# Altium integrated library Silicon Labs Clocks and Oscillators.IntLib: 678 symbols (part 21 of 45)
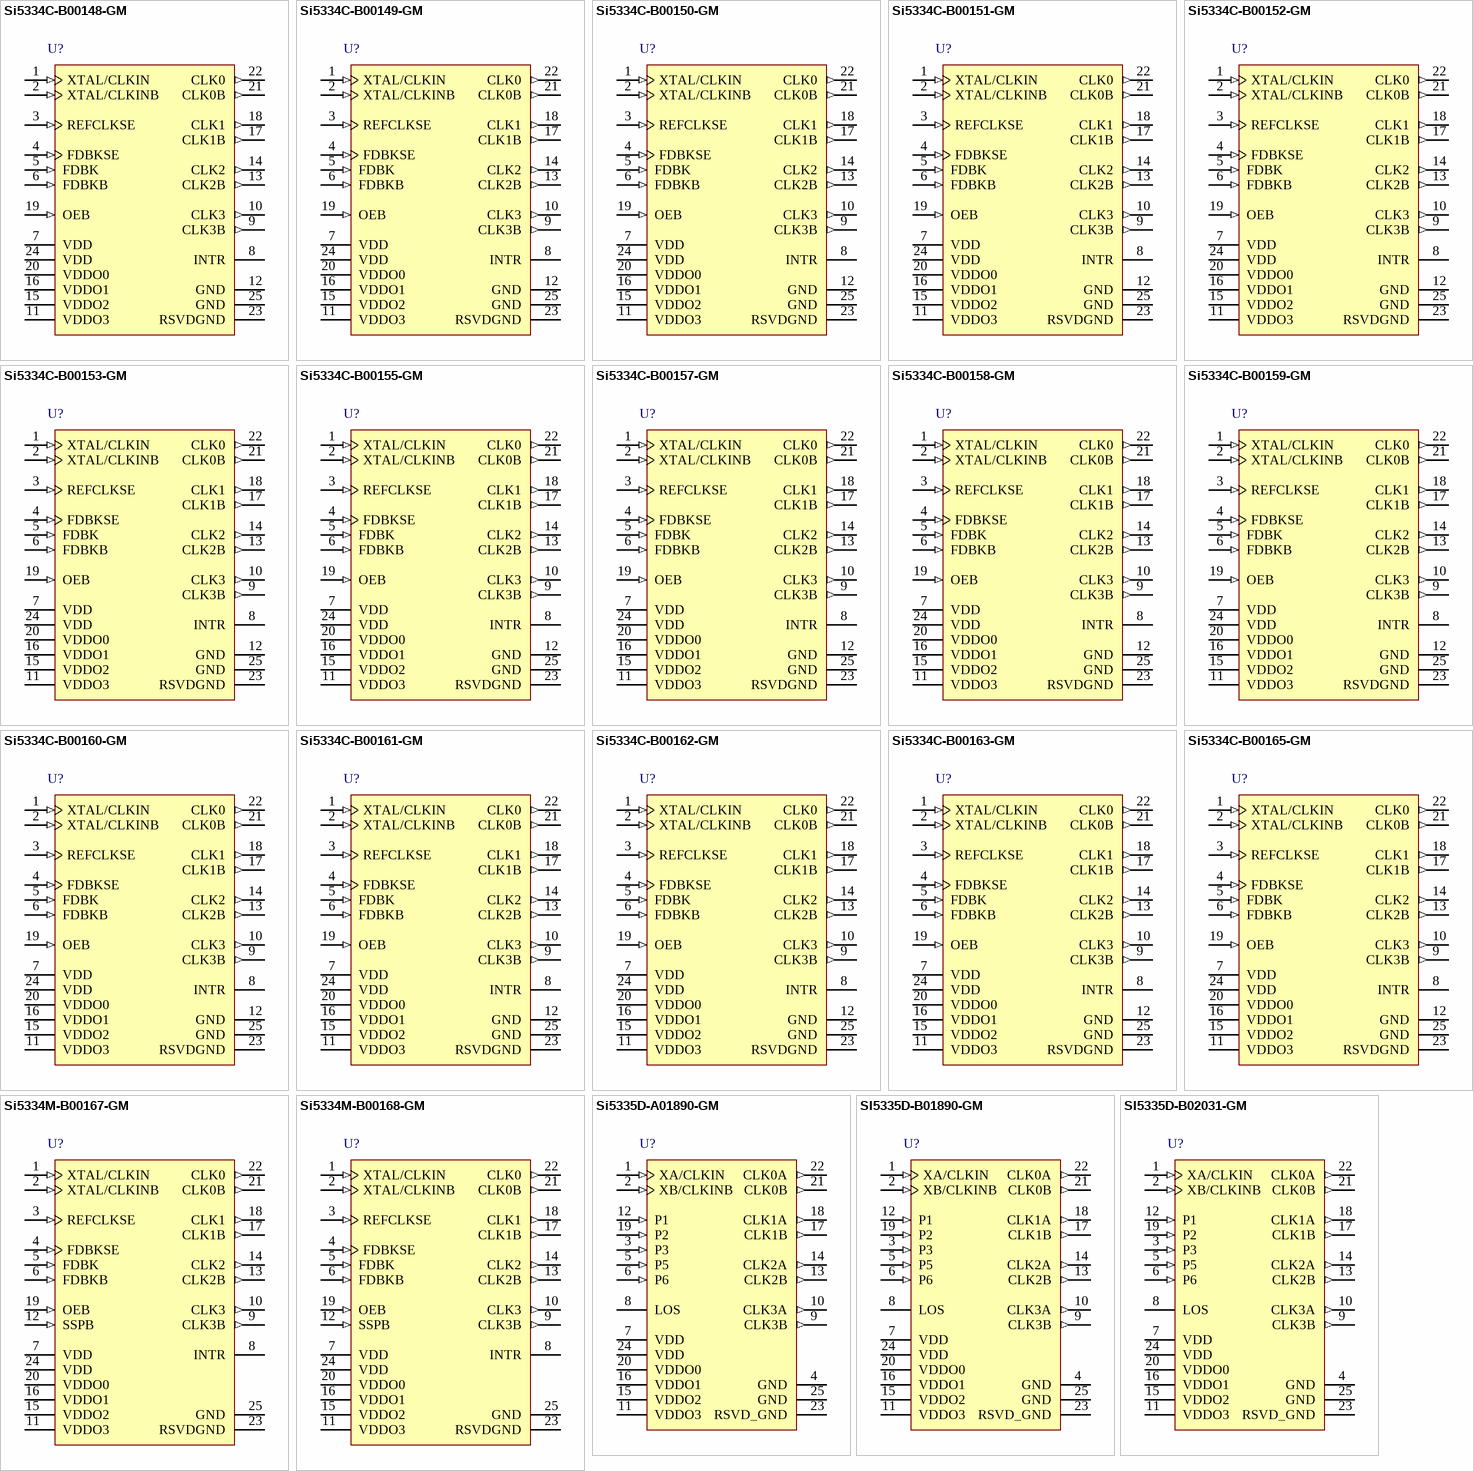
[diagram p64: symbols Si5334C-B00148-GM to SI5335D-B02031-GM]

## Si5335D-A01890-GM
designator U?
Web-Customizable, Any-Frequency, Any-Output Quad Clock Generator / Buffer, 1.8 / 2.5 / 3.3 V, 1 to 200 MHz Output, -40 to 85 degC, 24-pin QFN; Manufacturer: Silicon Labs; PartNumber: Si5335D-A01890-GM; Output Format: LVCMOS; LVDS; LVPECL; HCSL; SSTL; HSTL; CML; Output Frequency (MHz): 1 to 200; Reference Inputs: 1; VDD: 1.8 V; 2.5 V; 3.3 V; Sub-Family: Clock Generators part2; DatasheetVersion: Rev. 1.2; PackageReference: QFN-24; PackageDescription: 24-Pin Quad-Flat No-Leads Package, Body 4 x 4 mm, Pitch 0.5 mm; Supplier 1: Mouser; Supplier Part Number 1: 634-SI5335DA01890-GM; Mounting Technology: Surface Mount; Code_JEDEC: MO-220; Code_IPC: J-STD-020; ComponentLink1Description: Manufacturer URL; ComponentLink1URL: http://www.silabs.com/; ComponentLink2Description: Datasheet; ComponentLink2URL: http://www.silabs.com/Support%20Documents/TechnicalDocs/Si5335.pdf; ComponentLink3Description: Package Specification; ComponentLink3URL: http://www.silabs.com/Support%20Documents/TechnicalDocs/Si5330.pdf
footprint SLAB-QFN-24-2500x2500TP_N (QFN, 24-Leads, Body 4x4mm, Pitch 0.5mm, Thermal Pad 2.5x2.5mm, IPC Medium Density)
footprint SLAB-QFN-24-2500x2500TP_L (QFN, 24-Leads, Body 4x4mm, Pitch 0.5mm, Thermal Pad 2.5x2.5mm, IPC High Density)
footprint SLAB-QFN-24-2500x2500TP_M (QFN, 24-Leads, Body 4x4mm, Pitch 0.5mm, Thermal Pad 2.5x2.5mm, IPC Low Density)
pins: 1 XA/CLKIN (in) "These pins are used as the main differential or single-ended clock input or as the XTAL input.", 2 XB/CLKINB (in) "These pins are used as the main differential or single-ended clock input or as the XTAL input.", 3 P3 (in) "Multi-Function Input. 3.3 V tolerant.", 4 GND (power) "Ground.", 5 P5 (in) "Multi-Function Input.", 6 P6 (in) "Multi-Function Input.", 7 VDD (power) "Core Supply Voltage", 8 LOS (oc) "Loss of Signal.", 9 CLK3B (out) "Output Clock B for Channel 3", 10 CLK3A (out) "Output Clock A for Channel 3", 11 VDDO3 (power) "Output Clock Supply Voltage", 12 P1 (in) "Multi-Function Input. 3.3 V tolerant.", 13 CLK2B (out) "Output Clock B for Channel 2", 14 CLK2A (out) "Output Clock A for Channel 2", 15 VDDO2 (power) "Output Clock Supply Voltage.", 16 VDDO1 (power) "Output Clock Supply Voltage.", 17 CLK1B (out) "Output Clock B for Channel 1", 18 CLK1A (out) "Output Clock A for Channel 1", 19 P2 (in) "Multi-Function Input. 3.3 V tolerant.", 20 VDDO0 (power) "Output Clock Supply Voltage.", 21 CLK0B (out) "Output Clock B for Channel 0", 22 CLK0A (out) "Output Clock A for Channel 0", 23 RSVD_GND (power) "Ground.", 24 VDD (power) "Core Supply Voltage.", 25 GND (power) "Ground Pad."

## SI5335D-B01890-GM
designator U?
Web-Customizable, Any-Frequency, Any-Output Quad Clock Generator / Buffer, 1.8 / 2.5 / 3.3 V, 1 to 200 MHz Output, -40 to 85 degC, 24-pin QFN; Manufacturer: Silicon Labs; PartNumber: SI5335D-B01890-GM; Output Format: LVCMOS; LVDS; LVPECL; HCSL; SSTL; HSTL; CML; Output Frequency (MHz): 1 to 200; Reference Inputs: 1; VDD: 1.8 V; 2.5 V; 3.3 V; Sub-Family: Clock Generators part2; DatasheetVersion: Rev. 1.2; PackageReference: QFN-24; PackageDescription: 24-Pin Quad-Flat No-Leads Package, Body 4 x 4 mm, Pitch 0.5 mm; Supplier 1: Mouser; Supplier Part Number 1: 634-SI5335DB01890-GM; Mounting Technology: Surface Mount; Code_JEDEC: MO-220; Code_IPC: J-STD-020; ComponentLink1Description: Manufacturer URL; ComponentLink1URL: http://www.silabs.com/; ComponentLink2Description: Datasheet; ComponentLink2URL: http://www.silabs.com/Support%20Documents/TechnicalDocs/Si5335.pdf; ComponentLink3Description: Package Specification; ComponentLink3URL: http://www.silabs.com/Support%20Documents/TechnicalDocs/Si5330.pdf
footprint SLAB-QFN-24-2500x2500TP_N (QFN, 24-Leads, Body 4x4mm, Pitch 0.5mm, Thermal Pad 2.5x2.5mm, IPC Medium Density)
footprint SLAB-QFN-24-2500x2500TP_L (QFN, 24-Leads, Body 4x4mm, Pitch 0.5mm, Thermal Pad 2.5x2.5mm, IPC High Density)
footprint SLAB-QFN-24-2500x2500TP_M (QFN, 24-Leads, Body 4x4mm, Pitch 0.5mm, Thermal Pad 2.5x2.5mm, IPC Low Density)
pins: 1 XA/CLKIN (in) "These pins are used as the main differential or single-ended clock input or as the XTAL input.", 2 XB/CLKINB (in) "These pins are used as the main differential or single-ended clock input or as the XTAL input.", 3 P3 (in) "Multi-Function Input. 3.3 V tolerant.", 4 GND (power) "Ground.", 5 P5 (in) "Multi-Function Input.", 6 P6 (in) "Multi-Function Input.", 7 VDD (power) "Core Supply Voltage", 8 LOS (oc) "Loss of Signal.", 9 CLK3B (out) "Output Clock B for Channel 3", 10 CLK3A (out) "Output Clock A for Channel 3", 11 VDDO3 (power) "Output Clock Supply Voltage", 12 P1 (in) "Multi-Function Input. 3.3 V tolerant.", 13 CLK2B (out) "Output Clock B for Channel 2", 14 CLK2A (out) "Output Clock A for Channel 2", 15 VDDO2 (power) "Output Clock Supply Voltage.", 16 VDDO1 (power) "Output Clock Supply Voltage.", 17 CLK1B (out) "Output Clock B for Channel 1", 18 CLK1A (out) "Output Clock A for Channel 1", 19 P2 (in) "Multi-Function Input. 3.3 V tolerant.", 20 VDDO0 (power) "Output Clock Supply Voltage.", 21 CLK0B (out) "Output Clock B for Channel 0", 22 CLK0A (out) "Output Clock A for Channel 0", 23 RSVD_GND (power) "Ground.", 24 VDD (power) "Core Supply Voltage.", 25 GND (power) "Ground Pad."

## SI5335D-B02031-GM
designator U?
Web-Customizable, Any-Frequency, Any-Output Quad Clock Generator / Buffer, 1.8 / 2.5 / 3.3 V, 1 to 200 MHz Output, -40 to 85 degC, 24-pin QFN; Manufacturer: Silicon Labs; PartNumber: SI5335D-B02031-GM; Output Format: LVCMOS; LVDS; LVPECL; HCSL; SSTL; HSTL; CML; Output Frequency (MHz): 1 to 200; Reference Inputs: 1; VDD: 1.8 V; 2.5 V; 3.3 V; Sub-Family: Clock Generators part2; DatasheetVersion: Rev. 1.2; PackageReference: QFN-24; PackageDescription: 24-Pin Quad-Flat No-Leads Package, Body 4 x 4 mm, Pitch 0.5 mm; Supplier 1: Mouser; Supplier Part Number 1: 634-SI5335DB02031-GM; Mounting Technology: Surface Mount; Code_JEDEC: MO-220; Code_IPC: J-STD-020; ComponentLink1Description: Manufacturer URL; ComponentLink1URL: http://www.silabs.com/; ComponentLink2Description: Datasheet; ComponentLink2URL: http://www.silabs.com/Support%20Documents/TechnicalDocs/Si5335.pdf; ComponentLink3Description: Package Specification; ComponentLink3URL: http://www.silabs.com/Support%20Documents/TechnicalDocs/Si5330.pdf
footprint SLAB-QFN-24-2500x2500TP_N (QFN, 24-Leads, Body 4x4mm, Pitch 0.5mm, Thermal Pad 2.5x2.5mm, IPC Medium Density)
footprint SLAB-QFN-24-2500x2500TP_L (QFN, 24-Leads, Body 4x4mm, Pitch 0.5mm, Thermal Pad 2.5x2.5mm, IPC High Density)
footprint SLAB-QFN-24-2500x2500TP_M (QFN, 24-Leads, Body 4x4mm, Pitch 0.5mm, Thermal Pad 2.5x2.5mm, IPC Low Density)
pins: 1 XA/CLKIN (in) "These pins are used as the main differential or single-ended clock input or as the XTAL input.", 2 XB/CLKINB (in) "These pins are used as the main differential or single-ended clock input or as the XTAL input.", 3 P3 (in) "Multi-Function Input. 3.3 V tolerant.", 4 GND (power) "Ground.", 5 P5 (in) "Multi-Function Input.", 6 P6 (in) "Multi-Function Input.", 7 VDD (power) "Core Supply Voltage", 8 LOS (oc) "Loss of Signal.", 9 CLK3B (out) "Output Clock B for Channel 3", 10 CLK3A (out) "Output Clock A for Channel 3", 11 VDDO3 (power) "Output Clock Supply Voltage", 12 P1 (in) "Multi-Function Input. 3.3 V tolerant.", 13 CLK2B (out) "Output Clock B for Channel 2", 14 CLK2A (out) "Output Clock A for Channel 2", 15 VDDO2 (power) "Output Clock Supply Voltage.", 16 VDDO1 (power) "Output Clock Supply Voltage.", 17 CLK1B (out) "Output Clock B for Channel 1", 18 CLK1A (out) "Output Clock A for Channel 1", 19 P2 (in) "Multi-Function Input. 3.3 V tolerant.", 20 VDDO0 (power) "Output Clock Supply Voltage.", 21 CLK0B (out) "Output Clock B for Channel 0", 22 CLK0A (out) "Output Clock A for Channel 0", 23 RSVD_GND (power) "Ground.", 24 VDD (power) "Core Supply Voltage.", 25 GND (power) "Ground Pad."

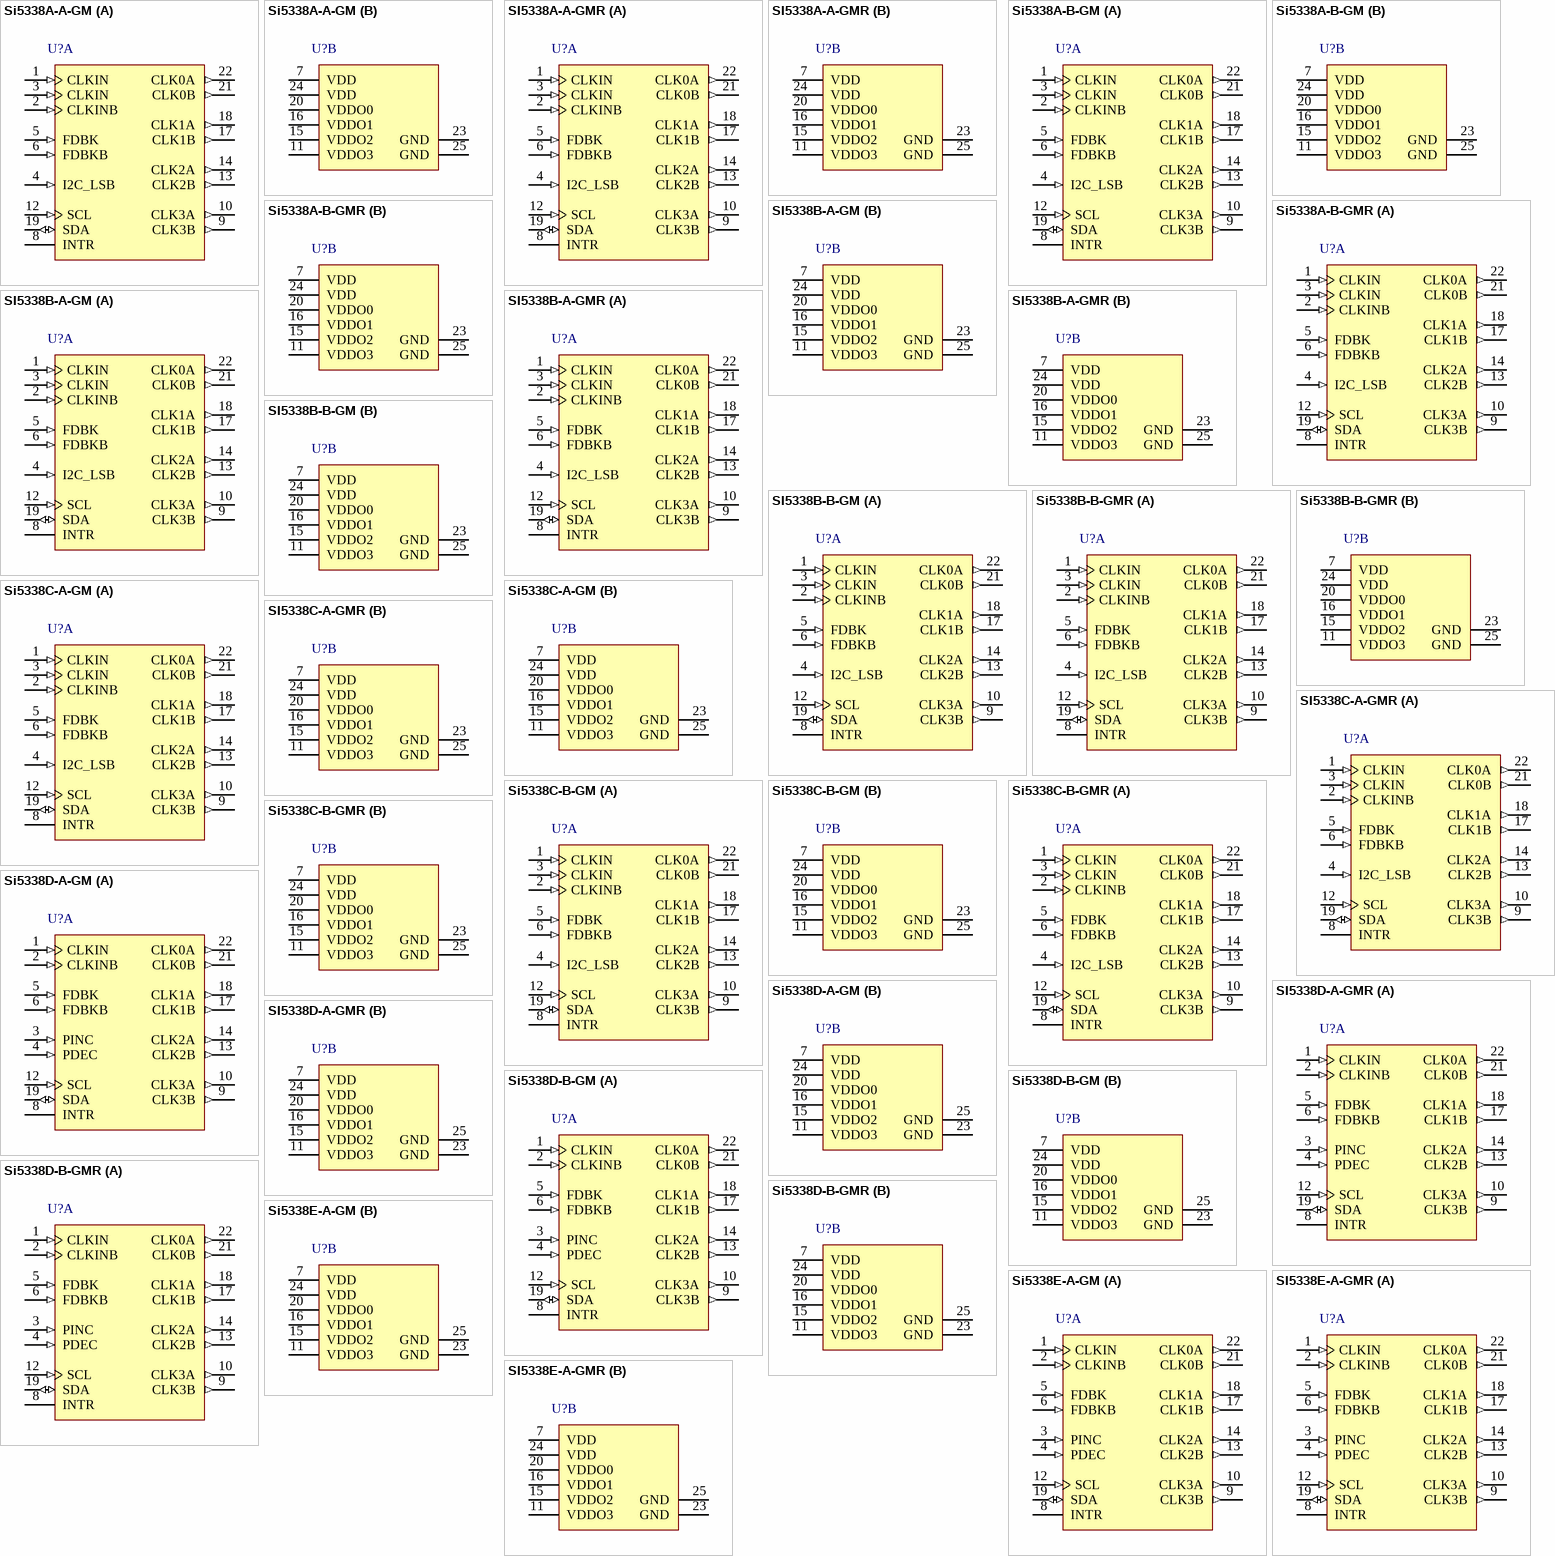
[diagram p22: symbols Si5338A-A-GM to SI5338E-A-GMR]

## Si5338A-A-GM
designator U?
I2C-Programmable Any-Frequency, Any-Output Quad Clock Generator, 1.8 / 2.5 / 3.3 V, 0.16 to 710 MHz Output, -40 to 85 degC, 24-pin QFN; Manufacturer: Silicon Labs; PartNumber: Si5338A-A-GM; Output Format: LVPECL; LVDS; LVCMOS; HCSL; SSTL; HSTL; Reference Inputs: 1; VDD: 1.8 V; 2.5 V; 3.3 V; Sub-Family: Clock Generators part2; DatasheetVersion: Rev. 1.3; PackageReference: QFN-24; PackageDescription: 24-Pin Quad-Flat No-Leads Package, Body 4 x 4 mm, Pitch 0.5 mm; Supplier 1: Digi-Key; Supplier Part Number 1: 336-1553-5-ND; Supplier 2: Mouser; Supplier Part Number 2: 634-SI5338A-A-GM; Output Frequency (MHz): 0.16 to 710; Mounting Technology: Surface Mount; Code_JEDEC: MO-220; Code_IPC: J-STD-020; ComponentLink1Description: Manufacturer URL; ComponentLink1URL: http://www.silabs.com/; ComponentLink2Description: Datasheet; ComponentLink2URL: http://www.silabs.com/Support%20Documents/TechnicalDocs/Si5338.pdf; ComponentLink3Description: Package Specification; ComponentLink3URL: http://www.silabs.com/Support%20Documents/TechnicalDocs/Si5330.pdf
footprint SLAB-QFN-24-2500x2500TP_N (QFN, 24-Leads, Body 4x4mm, Pitch 0.5mm, Thermal Pad 2.5x2.5mm, IPC Medium Density)
footprint SLAB-QFN-24-2500x2500TP_L (QFN, 24-Leads, Body 4x4mm, Pitch 0.5mm, Thermal Pad 2.5x2.5mm, IPC High Density)
footprint SLAB-QFN-24-2500x2500TP_M (QFN, 24-Leads, Body 4x4mm, Pitch 0.5mm, Thermal Pad 2.5x2.5mm, IPC Low Density)
part A pins: 1 CLKIN (in) "These pins are used as the main differential clock input or as the XTAL input.", 2 CLKINB (in) "These pins are used as the main differential clock input or as the XTAL input.", 3 CLKIN (in) "Provides a high-impedance clock input for single ended clock signals.", 4 I2C_LSB (in) "This is the LSB of the Si5338 I2C address.", 5 FDBK (in) "These pins can be used as a differential feedback input in zero delay mode or as a secondary clock input.", 6 FDBKB (in) "These pins can be used as a differential feedback input in zero delay mode or as a secondary clock input.", 8 INTR (oc) "Interrupt.", 9 CLK3B (out) "Output Clock B for Channel 3", 10 CLK3A (out) "Output Clock A for Channel 3", 12 SCL (in) "I2C Serial Clock Input.", 13 CLK2B (out) "Output Clock B for Channel 2", 14 CLK2A (out) "Output Clock A for Channel 2", 17 CLK1B (out) "Output Clock B for Channel 1", 18 CLK1A (out) "Output Clock A for Channel 1", 19 SDA (io) "I2C Serial Data.", 21 CLK0B (out) "Output Clock B for Channel 0", 22 CLK0A (out) "Output Clock A for Channel 0"
part B pins: 7 VDD (power) "Core Supply Voltage", 11 VDDO3 (power) "Output Clock Supply Voltage", 15 VDDO2 (power) "Output Clock Supply Voltage.", 16 VDDO1 (power) "Output Clock Supply Voltage.", 20 VDDO0 (power) "Output Clock Supply Voltage.", 23 GND (power) "Ground.", 24 VDD (power) "Core Supply Voltage.", 25 GND (power) "Ground Pad."

## SI5338A-A-GMR
designator U?
I2C-Programmable Any-Frequency, Any-Output Quad Clock Generator, 1.8 / 2.5 / 3.3 V, 0.16 to 710 MHz Output, -40 to 85 degC, 24-pin QFN, Tape and Reel; Manufacturer: Silicon Labs; PartNumber: SI5338A-A-GMR; Output Format: LVPECL; LVDS; LVCMOS; HCSL; SSTL; HSTL; Phase Jitter (RMS): 0.7 ps; Reference Inputs: 1; VDD: 1.8 V; 2.5 V; 3.3 V; Sub-Family: Clock Generators part2; DatasheetVersion: Rev. 1.3; PackageReference: QFN-24; PackageDescription: 24-Pin Quad-Flat No-Leads Package, Body 4 x 4 mm, Pitch 0.5 mm; Supplier 1: Digi-Key; Supplier Part Number 1: SI5338A-A-GMR-ND; Supplier 2: Mouser; Supplier Part Number 2: 634-SI5338A-A-GMR; Output Frequency (MHz): 0.16 to 710; Packing: Tape and Reel; Mounting Technology: Surface Mount; Code_JEDEC: MO-220; Code_IPC: J-STD-020; ComponentLink1Description: Manufacturer URL; ComponentLink1URL: http://www.silabs.com/; ComponentLink2Description: Datasheet; ComponentLink2URL: http://www.silabs.com/Support%20Documents/TechnicalDocs/Si5338.pdf; ComponentLink3Description: Package Specification; ComponentLink3URL: http://www.silabs.com/Support%20Documents/TechnicalDocs/Si5330.pdf
footprint SLAB-QFN-24-2500x2500TP_N (QFN, 24-Leads, Body 4x4mm, Pitch 0.5mm, Thermal Pad 2.5x2.5mm, IPC Medium Density)
footprint SLAB-QFN-24-2500x2500TP_L (QFN, 24-Leads, Body 4x4mm, Pitch 0.5mm, Thermal Pad 2.5x2.5mm, IPC High Density)
footprint SLAB-QFN-24-2500x2500TP_M (QFN, 24-Leads, Body 4x4mm, Pitch 0.5mm, Thermal Pad 2.5x2.5mm, IPC Low Density)
part A pins: 1 CLKIN (in) "These pins are used as the main differential clock input or as the XTAL input.", 2 CLKINB (in) "These pins are used as the main differential clock input or as the XTAL input.", 3 CLKIN (in) "Provides a high-impedance clock input for single ended clock signals.", 4 I2C_LSB (in) "This is the LSB of the Si5338 I2C address.", 5 FDBK (in) "These pins can be used as a differential feedback input in zero delay mode or as a secondary clock input.", 6 FDBKB (in) "These pins can be used as a differential feedback input in zero delay mode or as a secondary clock input.", 8 INTR (oc) "Interrupt.", 9 CLK3B (out) "Output Clock B for Channel 3", 10 CLK3A (out) "Output Clock A for Channel 3", 12 SCL (in) "I2C Serial Clock Input.", 13 CLK2B (out) "Output Clock B for Channel 2", 14 CLK2A (out) "Output Clock A for Channel 2", 17 CLK1B (out) "Output Clock B for Channel 1", 18 CLK1A (out) "Output Clock A for Channel 1", 19 SDA (io) "I2C Serial Data.", 21 CLK0B (out) "Output Clock B for Channel 0", 22 CLK0A (out) "Output Clock A for Channel 0"
part B pins: 7 VDD (power) "Core Supply Voltage", 11 VDDO3 (power) "Output Clock Supply Voltage", 15 VDDO2 (power) "Output Clock Supply Voltage.", 16 VDDO1 (power) "Output Clock Supply Voltage.", 20 VDDO0 (power) "Output Clock Supply Voltage.", 23 GND (power) "Ground.", 24 VDD (power) "Core Supply Voltage.", 25 GND (power) "Ground Pad."

## Si5338A-B-GM
designator U?
I2C-Programmable Any-Frequency, Any-Output Quad Clock Generator, 1.8 / 2.5 / 3.3 V, 0.16 to 710 MHz Output, -40 to 85 degC, 24-pin QFN; Manufacturer: Silicon Labs; PartNumber: Si5338A-B-GM; Output Format: LVPECL; LVDS; LVCMOS; HCSL; SSTL; HSTL; Reference Inputs: 1; VDD: 1.8 V; 2.5 V; 3.3 V; Sub-Family: Clock Generators part2; DatasheetVersion: Rev. 1.3; PackageReference: QFN-24; PackageDescription: 24-Pin Quad-Flat No-Leads Package, Body 4 x 4 mm, Pitch 0.5 mm; Supplier 1: Digi-Key; Supplier Part Number 1: 336-2552-ND; Supplier 2: Mouser; Supplier Part Number 2: 634-SI5338A-B-GM; Output Frequency (MHz): 0.16 to 710; Mounting Technology: Surface Mount; Code_JEDEC: MO-220; Code_IPC: J-STD-020; ComponentLink1Description: Manufacturer URL; ComponentLink1URL: http://www.silabs.com/; ComponentLink2Description: Datasheet; ComponentLink2URL: http://www.silabs.com/Support%20Documents/TechnicalDocs/Si5338.pdf; ComponentLink3Description: Package Specification; ComponentLink3URL: http://www.silabs.com/Support%20Documents/TechnicalDocs/Si5330.pdf
footprint SLAB-QFN-24-2500x2500TP_N (QFN, 24-Leads, Body 4x4mm, Pitch 0.5mm, Thermal Pad 2.5x2.5mm, IPC Medium Density)
footprint SLAB-QFN-24-2500x2500TP_L (QFN, 24-Leads, Body 4x4mm, Pitch 0.5mm, Thermal Pad 2.5x2.5mm, IPC High Density)
footprint SLAB-QFN-24-2500x2500TP_M (QFN, 24-Leads, Body 4x4mm, Pitch 0.5mm, Thermal Pad 2.5x2.5mm, IPC Low Density)
part A pins: 1 CLKIN (in) "These pins are used as the main differential clock input or as the XTAL input.", 2 CLKINB (in) "These pins are used as the main differential clock input or as the XTAL input.", 3 CLKIN (in) "Provides a high-impedance clock input for single ended clock signals.", 4 I2C_LSB (in) "This is the LSB of the Si5338 I2C address.", 5 FDBK (in) "These pins can be used as a differential feedback input in zero delay mode or as a secondary clock input.", 6 FDBKB (in) "These pins can be used as a differential feedback input in zero delay mode or as a secondary clock input.", 8 INTR (oc) "Interrupt.", 9 CLK3B (out) "Output Clock B for Channel 3", 10 CLK3A (out) "Output Clock A for Channel 3", 12 SCL (in) "I2C Serial Clock Input.", 13 CLK2B (out) "Output Clock B for Channel 2", 14 CLK2A (out) "Output Clock A for Channel 2", 17 CLK1B (out) "Output Clock B for Channel 1", 18 CLK1A (out) "Output Clock A for Channel 1", 19 SDA (io) "I2C Serial Data.", 21 CLK0B (out) "Output Clock B for Channel 0", 22 CLK0A (out) "Output Clock A for Channel 0"
part B pins: 7 VDD (power) "Core Supply Voltage", 11 VDDO3 (power) "Output Clock Supply Voltage", 15 VDDO2 (power) "Output Clock Supply Voltage.", 16 VDDO1 (power) "Output Clock Supply Voltage.", 20 VDDO0 (power) "Output Clock Supply Voltage.", 23 GND (power) "Ground.", 24 VDD (power) "Core Supply Voltage.", 25 GND (power) "Ground Pad."

## Si5338A-B-GMR
designator U?
I2C-Programmable Any-Frequency, Any-Output Quad Clock Generator, 1.8 / 2.5 / 3.3 V, 0.16 to 710 MHz Output, -40 to 85 degC, 24-pin QFN, Tape and Reel; Manufacturer: Silicon Labs; PartNumber: Si5338A-B-GMR; Output Format: LVPECL; LVDS; LVCMOS; HCSL; SSTL; HSTL; Phase Jitter (RMS): 0.7 ps; Reference Inputs: 1; VDD: 1.8 V; 2.5 V; 3.3 V; Sub-Family: Clock Generators part2; DatasheetVersion: Rev. 1.3; PackageReference: QFN-24; PackageDescription: 24-Pin Quad-Flat No-Leads Package, Body 4 x 4 mm, Pitch 0.5 mm; Supplier 1: Digi-Key; Supplier Part Number 1: SI5338A-B-GMR-ND; Supplier 2: Mouser; Supplier Part Number 2: 634-SI5338A-B-GMR; Output Frequency (MHz): 0.16 to 710; Packing: Tape and Reel; Mounting Technology: Surface Mount; Code_JEDEC: MO-220; Code_IPC: J-STD-020; ComponentLink1Description: Manufacturer URL; ComponentLink1URL: http://www.silabs.com/; ComponentLink2Description: Datasheet; ComponentLink2URL: http://www.silabs.com/Support%20Documents/TechnicalDocs/Si5338.pdf; ComponentLink3Description: Package Specification; ComponentLink3URL: http://www.silabs.com/Support%20Documents/TechnicalDocs/Si5330.pdf
footprint SLAB-QFN-24-2500x2500TP_N (QFN, 24-Leads, Body 4x4mm, Pitch 0.5mm, Thermal Pad 2.5x2.5mm, IPC Medium Density)
footprint SLAB-QFN-24-2500x2500TP_L (QFN, 24-Leads, Body 4x4mm, Pitch 0.5mm, Thermal Pad 2.5x2.5mm, IPC High Density)
footprint SLAB-QFN-24-2500x2500TP_M (QFN, 24-Leads, Body 4x4mm, Pitch 0.5mm, Thermal Pad 2.5x2.5mm, IPC Low Density)
part A pins: 1 CLKIN (in) "These pins are used as the main differential clock input or as the XTAL input.", 2 CLKINB (in) "These pins are used as the main differential clock input or as the XTAL input.", 3 CLKIN (in) "Provides a high-impedance clock input for single ended clock signals.", 4 I2C_LSB (in) "This is the LSB of the Si5338 I2C address.", 5 FDBK (in) "These pins can be used as a differential feedback input in zero delay mode or as a secondary clock input.", 6 FDBKB (in) "These pins can be used as a differential feedback input in zero delay mode or as a secondary clock input.", 8 INTR (oc) "Interrupt.", 9 CLK3B (out) "Output Clock B for Channel 3", 10 CLK3A (out) "Output Clock A for Channel 3", 12 SCL (in) "I2C Serial Clock Input.", 13 CLK2B (out) "Output Clock B for Channel 2", 14 CLK2A (out) "Output Clock A for Channel 2", 17 CLK1B (out) "Output Clock B for Channel 1", 18 CLK1A (out) "Output Clock A for Channel 1", 19 SDA (io) "I2C Serial Data.", 21 CLK0B (out) "Output Clock B for Channel 0", 22 CLK0A (out) "Output Clock A for Channel 0"
part B pins: 7 VDD (power) "Core Supply Voltage", 11 VDDO3 (power) "Output Clock Supply Voltage", 15 VDDO2 (power) "Output Clock Supply Voltage.", 16 VDDO1 (power) "Output Clock Supply Voltage.", 20 VDDO0 (power) "Output Clock Supply Voltage.", 23 GND (power) "Ground.", 24 VDD (power) "Core Supply Voltage.", 25 GND (power) "Ground Pad."

## SI5338B-A-GM
designator U?
I2C-Programmable Any-Frequency, Any-Output Quad Clock Generator, 1.8 / 2.5 / 3.3 V, 0.16 to 350 MHz Output, -40 to 85 degC, 24-pin QFN; Manufacturer: Silicon Labs; PartNumber: SI5338B-A-GM; Output Format: LVPECL; LVDS; LVCMOS; HCSL; SSTL; HSTL; Reference Inputs: 1; VDD: 1.8 V; 2.5 V; 3.3 V; Sub-Family: Clock Generators part2; DatasheetVersion: Rev. 1.3; PackageReference: QFN-24; PackageDescription: 24-Pin Quad-Flat No-Leads Package, Body 4 x 4 mm, Pitch 0.5 mm; Supplier 1: Digi-Key; Supplier Part Number 1: 336-1554-5-ND; Supplier 2: Mouser; Supplier Part Number 2: 634-SI5338B-A-GM; Output Frequency (MHz): 0.16 to 350; Mounting Technology: Surface Mount; Code_JEDEC: MO-220; Code_IPC: J-STD-020; ComponentLink1Description: Manufacturer URL; ComponentLink1URL: http://www.silabs.com/; ComponentLink2Description: Datasheet; ComponentLink2URL: http://www.silabs.com/Support%20Documents/TechnicalDocs/Si5338.pdf; ComponentLink3Description: Package Specification; ComponentLink3URL: http://www.silabs.com/Support%20Documents/TechnicalDocs/Si5330.pdf
footprint SLAB-QFN-24-2500x2500TP_N (QFN, 24-Leads, Body 4x4mm, Pitch 0.5mm, Thermal Pad 2.5x2.5mm, IPC Medium Density)
footprint SLAB-QFN-24-2500x2500TP_L (QFN, 24-Leads, Body 4x4mm, Pitch 0.5mm, Thermal Pad 2.5x2.5mm, IPC High Density)
footprint SLAB-QFN-24-2500x2500TP_M (QFN, 24-Leads, Body 4x4mm, Pitch 0.5mm, Thermal Pad 2.5x2.5mm, IPC Low Density)
part A pins: 1 CLKIN (in) "These pins are used as the main differential clock input or as the XTAL input.", 2 CLKINB (in) "These pins are used as the main differential clock input or as the XTAL input.", 3 CLKIN (in) "Provides a high-impedance clock input for single ended clock signals.", 4 I2C_LSB (in) "This is the LSB of the Si5338 I2C address.", 5 FDBK (in) "These pins can be used as a differential feedback input in zero delay mode or as a secondary clock input.", 6 FDBKB (in) "These pins can be used as a differential feedback input in zero delay mode or as a secondary clock input.", 8 INTR (oc) "Interrupt.", 9 CLK3B (out) "Output Clock B for Channel 3", 10 CLK3A (out) "Output Clock A for Channel 3", 12 SCL (in) "I2C Serial Clock Input.", 13 CLK2B (out) "Output Clock B for Channel 2", 14 CLK2A (out) "Output Clock A for Channel 2", 17 CLK1B (out) "Output Clock B for Channel 1", 18 CLK1A (out) "Output Clock A for Channel 1", 19 SDA (io) "I2C Serial Data.", 21 CLK0B (out) "Output Clock B for Channel 0", 22 CLK0A (out) "Output Clock A for Channel 0"
part B pins: 7 VDD (power) "Core Supply Voltage", 11 VDDO3 (power) "Output Clock Supply Voltage", 15 VDDO2 (power) "Output Clock Supply Voltage.", 16 VDDO1 (power) "Output Clock Supply Voltage.", 20 VDDO0 (power) "Output Clock Supply Voltage.", 23 GND (power) "Ground.", 24 VDD (power) "Core Supply Voltage.", 25 GND (power) "Ground Pad."

## SI5338B-A-GMR
designator U?
I2C-Programmable Any-Frequency, Any-Output Quad Clock Generator, 1.8 / 2.5 / 3.3 V, 0.16 to 350 MHz Output, -40 to 85 degC, 24-pin QFN, Tape and Reel; Manufacturer: Silicon Labs; PartNumber: SI5338B-A-GMR; Output Format: LVPECL; LVDS; LVCMOS; HCSL; SSTL; HSTL; Phase Jitter (RMS): 0.7 ps; Reference Inputs: 1; VDD: 1.8 V; 2.5 V; 3.3 V; Sub-Family: Clock Generators part2; DatasheetVersion: Rev. 1.3; PackageReference: QFN-24; PackageDescription: 24-Pin Quad-Flat No-Leads Package, Body 4 x 4 mm, Pitch 0.5 mm; Supplier 1: Digi-Key; Supplier Part Number 1: SI5338B-A-GMR-ND; Supplier 2: Mouser; Supplier Part Number 2: 634-SI5338B-A-GMR; Output Frequency (MHz): 0.16 to 350; Packing: Tape and Reel; Mounting Technology: Surface Mount; Code_JEDEC: MO-220; Code_IPC: J-STD-020; ComponentLink1Description: Manufacturer URL; ComponentLink1URL: http://www.silabs.com/; ComponentLink2Description: Datasheet; ComponentLink2URL: http://www.silabs.com/Support%20Documents/TechnicalDocs/Si5338.pdf; ComponentLink3Description: Package Specification; ComponentLink3URL: http://www.silabs.com/Support%20Documents/TechnicalDocs/Si5330.pdf
footprint SLAB-QFN-24-2500x2500TP_N (QFN, 24-Leads, Body 4x4mm, Pitch 0.5mm, Thermal Pad 2.5x2.5mm, IPC Medium Density)
footprint SLAB-QFN-24-2500x2500TP_L (QFN, 24-Leads, Body 4x4mm, Pitch 0.5mm, Thermal Pad 2.5x2.5mm, IPC High Density)
footprint SLAB-QFN-24-2500x2500TP_M (QFN, 24-Leads, Body 4x4mm, Pitch 0.5mm, Thermal Pad 2.5x2.5mm, IPC Low Density)
part A pins: 1 CLKIN (in) "These pins are used as the main differential clock input or as the XTAL input.", 2 CLKINB (in) "These pins are used as the main differential clock input or as the XTAL input.", 3 CLKIN (in) "Provides a high-impedance clock input for single ended clock signals.", 4 I2C_LSB (in) "This is the LSB of the Si5338 I2C address.", 5 FDBK (in) "These pins can be used as a differential feedback input in zero delay mode or as a secondary clock input.", 6 FDBKB (in) "These pins can be used as a differential feedback input in zero delay mode or as a secondary clock input.", 8 INTR (oc) "Interrupt.", 9 CLK3B (out) "Output Clock B for Channel 3", 10 CLK3A (out) "Output Clock A for Channel 3", 12 SCL (in) "I2C Serial Clock Input.", 13 CLK2B (out) "Output Clock B for Channel 2", 14 CLK2A (out) "Output Clock A for Channel 2", 17 CLK1B (out) "Output Clock B for Channel 1", 18 CLK1A (out) "Output Clock A for Channel 1", 19 SDA (io) "I2C Serial Data.", 21 CLK0B (out) "Output Clock B for Channel 0", 22 CLK0A (out) "Output Clock A for Channel 0"
part B pins: 7 VDD (power) "Core Supply Voltage", 11 VDDO3 (power) "Output Clock Supply Voltage", 15 VDDO2 (power) "Output Clock Supply Voltage.", 16 VDDO1 (power) "Output Clock Supply Voltage.", 20 VDDO0 (power) "Output Clock Supply Voltage.", 23 GND (power) "Ground.", 24 VDD (power) "Core Supply Voltage.", 25 GND (power) "Ground Pad."

## SI5338B-B-GM
designator U?
I2C-Programmable Any-Frequency, Any-Output Quad Clock Generator, 1.8 / 2.5 / 3.3 V, 0.16 to 350 MHz Output, -40 to 85 degC, 24-pin QFN; Manufacturer: Silicon Labs; PartNumber: SI5338B-B-GM; Output Format: LVPECL; LVDS; LVCMOS; HCSL; SSTL; HSTL; Reference Inputs: 1; VDD: 1.8 V; 2.5 V; 3.3 V; Sub-Family: Clock Generators part2; DatasheetVersion: Rev. 1.3; PackageReference: QFN-24; PackageDescription: 24-Pin Quad-Flat No-Leads Package, Body 4 x 4 mm, Pitch 0.5 mm; Supplier 1: Digi-Key; Supplier Part Number 1: 336-2553-ND; Supplier 2: Mouser; Supplier Part Number 2: 634-SI5338B-B-GM; Output Frequency (MHz): 0.16 to 350; Mounting Technology: Surface Mount; Code_JEDEC: MO-220; Code_IPC: J-STD-020; ComponentLink1Description: Manufacturer URL; ComponentLink1URL: http://www.silabs.com/; ComponentLink2Description: Datasheet; ComponentLink2URL: http://www.silabs.com/Support%20Documents/TechnicalDocs/Si5338.pdf; ComponentLink3Description: Package Specification; ComponentLink3URL: http://www.silabs.com/Support%20Documents/TechnicalDocs/Si5330.pdf
footprint SLAB-QFN-24-2500x2500TP_N (QFN, 24-Leads, Body 4x4mm, Pitch 0.5mm, Thermal Pad 2.5x2.5mm, IPC Medium Density)
footprint SLAB-QFN-24-2500x2500TP_L (QFN, 24-Leads, Body 4x4mm, Pitch 0.5mm, Thermal Pad 2.5x2.5mm, IPC High Density)
footprint SLAB-QFN-24-2500x2500TP_M (QFN, 24-Leads, Body 4x4mm, Pitch 0.5mm, Thermal Pad 2.5x2.5mm, IPC Low Density)
part A pins: 1 CLKIN (in) "These pins are used as the main differential clock input or as the XTAL input.", 2 CLKINB (in) "These pins are used as the main differential clock input or as the XTAL input.", 3 CLKIN (in) "Provides a high-impedance clock input for single ended clock signals.", 4 I2C_LSB (in) "This is the LSB of the Si5338 I2C address.", 5 FDBK (in) "These pins can be used as a differential feedback input in zero delay mode or as a secondary clock input.", 6 FDBKB (in) "These pins can be used as a differential feedback input in zero delay mode or as a secondary clock input.", 8 INTR (oc) "Interrupt.", 9 CLK3B (out) "Output Clock B for Channel 3", 10 CLK3A (out) "Output Clock A for Channel 3", 12 SCL (in) "I2C Serial Clock Input.", 13 CLK2B (out) "Output Clock B for Channel 2", 14 CLK2A (out) "Output Clock A for Channel 2", 17 CLK1B (out) "Output Clock B for Channel 1", 18 CLK1A (out) "Output Clock A for Channel 1", 19 SDA (io) "I2C Serial Data.", 21 CLK0B (out) "Output Clock B for Channel 0", 22 CLK0A (out) "Output Clock A for Channel 0"
part B pins: 7 VDD (power) "Core Supply Voltage", 11 VDDO3 (power) "Output Clock Supply Voltage", 15 VDDO2 (power) "Output Clock Supply Voltage.", 16 VDDO1 (power) "Output Clock Supply Voltage.", 20 VDDO0 (power) "Output Clock Supply Voltage.", 23 GND (power) "Ground.", 24 VDD (power) "Core Supply Voltage.", 25 GND (power) "Ground Pad."

## Si5338B-B-GMR
designator U?
I2C-Programmable Any-Frequency, Any-Output Quad Clock Generator, 1.8 / 2.5 / 3.3 V, 0.16 to 350 MHz Output, -40 to 85 degC, 24-pin QFN, Tape and Reel; Manufacturer: Silicon Labs; PartNumber: Si5338B-B-GMR; Output Format: LVPECL; LVDS; LVCMOS; HCSL; SSTL; HSTL; Phase Jitter (RMS): 0.7 ps; Reference Inputs: 1; VDD: 1.8 V; 2.5 V; 3.3 V; Sub-Family: Clock Generators part2; DatasheetVersion: Rev. 1.3; PackageReference: QFN-24; PackageDescription: 24-Pin Quad-Flat No-Leads Package, Body 4 x 4 mm, Pitch 0.5 mm; Supplier 1: Digi-Key; Supplier Part Number 1: SI5338B-B-GMR-ND; Supplier 2: Mouser; Supplier Part Number 2: 634-SI5338B-B-GMR; Output Frequency (MHz): 0.16 to 350; Packing: Tape and Reel; Mounting Technology: Surface Mount; Code_JEDEC: MO-220; Code_IPC: J-STD-020; ComponentLink1Description: Manufacturer URL; ComponentLink1URL: http://www.silabs.com/; ComponentLink2Description: Datasheet; ComponentLink2URL: http://www.silabs.com/Support%20Documents/TechnicalDocs/Si5338.pdf; ComponentLink3Description: Package Specification; ComponentLink3URL: http://www.silabs.com/Support%20Documents/TechnicalDocs/Si5330.pdf
footprint SLAB-QFN-24-2500x2500TP_N (QFN, 24-Leads, Body 4x4mm, Pitch 0.5mm, Thermal Pad 2.5x2.5mm, IPC Medium Density)
footprint SLAB-QFN-24-2500x2500TP_L (QFN, 24-Leads, Body 4x4mm, Pitch 0.5mm, Thermal Pad 2.5x2.5mm, IPC High Density)
footprint SLAB-QFN-24-2500x2500TP_M (QFN, 24-Leads, Body 4x4mm, Pitch 0.5mm, Thermal Pad 2.5x2.5mm, IPC Low Density)
part A pins: 1 CLKIN (in) "These pins are used as the main differential clock input or as the XTAL input.", 2 CLKINB (in) "These pins are used as the main differential clock input or as the XTAL input.", 3 CLKIN (in) "Provides a high-impedance clock input for single ended clock signals.", 4 I2C_LSB (in) "This is the LSB of the Si5338 I2C address.", 5 FDBK (in) "These pins can be used as a differential feedback input in zero delay mode or as a secondary clock input.", 6 FDBKB (in) "These pins can be used as a differential feedback input in zero delay mode or as a secondary clock input.", 8 INTR (oc) "Interrupt.", 9 CLK3B (out) "Output Clock B for Channel 3", 10 CLK3A (out) "Output Clock A for Channel 3", 12 SCL (in) "I2C Serial Clock Input.", 13 CLK2B (out) "Output Clock B for Channel 2", 14 CLK2A (out) "Output Clock A for Channel 2", 17 CLK1B (out) "Output Clock B for Channel 1", 18 CLK1A (out) "Output Clock A for Channel 1", 19 SDA (io) "I2C Serial Data.", 21 CLK0B (out) "Output Clock B for Channel 0", 22 CLK0A (out) "Output Clock A for Channel 0"
part B pins: 7 VDD (power) "Core Supply Voltage", 11 VDDO3 (power) "Output Clock Supply Voltage", 15 VDDO2 (power) "Output Clock Supply Voltage.", 16 VDDO1 (power) "Output Clock Supply Voltage.", 20 VDDO0 (power) "Output Clock Supply Voltage.", 23 GND (power) "Ground.", 24 VDD (power) "Core Supply Voltage.", 25 GND (power) "Ground Pad."

## Si5338C-A-GM
designator U?
I2C-Programmable Any-Frequency, Any-Output Quad Clock Generator, 1.8 / 2.5 / 3.3 V, 0.16 to 200 MHz Output, -40 to 85 degC, 24-pin QFN; Manufacturer: Silicon Labs; PartNumber: Si5338C-A-GM; Output Format: LVPECL; LVDS; LVCMOS; HCSL; SSTL; HSTL; Reference Inputs: 1; VDD: 1.8 V; 2.5 V; 3.3 V; Sub-Family: Clock Generators part2; DatasheetVersion: Rev. 1.3; PackageReference: QFN-24; PackageDescription: 24-Pin Quad-Flat No-Leads Package, Body 4 x 4 mm, Pitch 0.5 mm; Supplier 1: Digi-Key; Supplier Part Number 1: 336-1555-5-ND; Supplier 2: Mouser; Supplier Part Number 2: 634-SI5338C-A-GM; Output Frequency (MHz): 0.16 to 200; Mounting Technology: Surface Mount; Code_JEDEC: MO-220; Code_IPC: J-STD-020; ComponentLink1Description: Manufacturer URL; ComponentLink1URL: http://www.silabs.com/; ComponentLink2Description: Datasheet; ComponentLink2URL: http://www.silabs.com/Support%20Documents/TechnicalDocs/Si5338.pdf; ComponentLink3Description: Package Specification; ComponentLink3URL: http://www.silabs.com/Support%20Documents/TechnicalDocs/Si5330.pdf
footprint SLAB-QFN-24-2500x2500TP_N (QFN, 24-Leads, Body 4x4mm, Pitch 0.5mm, Thermal Pad 2.5x2.5mm, IPC Medium Density)
footprint SLAB-QFN-24-2500x2500TP_L (QFN, 24-Leads, Body 4x4mm, Pitch 0.5mm, Thermal Pad 2.5x2.5mm, IPC High Density)
footprint SLAB-QFN-24-2500x2500TP_M (QFN, 24-Leads, Body 4x4mm, Pitch 0.5mm, Thermal Pad 2.5x2.5mm, IPC Low Density)
part A pins: 1 CLKIN (in) "These pins are used as the main differential clock input or as the XTAL input.", 2 CLKINB (in) "These pins are used as the main differential clock input or as the XTAL input.", 3 CLKIN (in) "Provides a high-impedance clock input for single ended clock signals.", 4 I2C_LSB (in) "This is the LSB of the Si5338 I2C address.", 5 FDBK (in) "These pins can be used as a differential feedback input in zero delay mode or as a secondary clock input.", 6 FDBKB (in) "These pins can be used as a differential feedback input in zero delay mode or as a secondary clock input.", 8 INTR (oc) "Interrupt.", 9 CLK3B (out) "Output Clock B for Channel 3", 10 CLK3A (out) "Output Clock A for Channel 3", 12 SCL (in) "I2C Serial Clock Input.", 13 CLK2B (out) "Output Clock B for Channel 2", 14 CLK2A (out) "Output Clock A for Channel 2", 17 CLK1B (out) "Output Clock B for Channel 1", 18 CLK1A (out) "Output Clock A for Channel 1", 19 SDA (io) "I2C Serial Data.", 21 CLK0B (out) "Output Clock B for Channel 0", 22 CLK0A (out) "Output Clock A for Channel 0"
part B pins: 7 VDD (power) "Core Supply Voltage", 11 VDDO3 (power) "Output Clock Supply Voltage", 15 VDDO2 (power) "Output Clock Supply Voltage.", 16 VDDO1 (power) "Output Clock Supply Voltage.", 20 VDDO0 (power) "Output Clock Supply Voltage.", 23 GND (power) "Ground.", 24 VDD (power) "Core Supply Voltage.", 25 GND (power) "Ground Pad."

## SI5338C-A-GMR
designator U?
I2C-Programmable Any-Frequency, Any-Output Quad Clock Generator, 1.8 / 2.5 / 3.3 V, 0.16 to 200 MHz Output, -40 to 85 degC, 24-pin QFN, Tape and Reel; Manufacturer: Silicon Labs; PartNumber: SI5338C-A-GMR; Output Format: LVPECL; LVDS; LVCMOS; HCSL; SSTL; HSTL; Phase Jitter (RMS): 0.7 ps; Reference Inputs: 1; VDD: 1.8 V; 2.5 V; 3.3 V; Sub-Family: Clock Generators part2; DatasheetVersion: Rev. 1.3; PackageReference: QFN-24; PackageDescription: 24-Pin Quad-Flat No-Leads Package, Body 4 x 4 mm, Pitch 0.5 mm; Supplier 1: Mouser; Supplier Part Number 1: 634-SI5338C-A-GMR; Output Frequency (MHz): 0.16 to 200; Packing: Tape and Reel; Mounting Technology: Surface Mount; Code_JEDEC: MO-220; Code_IPC: J-STD-020; ComponentLink1Description: Manufacturer URL; ComponentLink1URL: http://www.silabs.com/; ComponentLink2Description: Datasheet; ComponentLink2URL: http://www.silabs.com/Support%20Documents/TechnicalDocs/Si5338.pdf; ComponentLink3Description: Package Specification; ComponentLink3URL: http://www.silabs.com/Support%20Documents/TechnicalDocs/Si5330.pdf
footprint SLAB-QFN-24-2500x2500TP_N (QFN, 24-Leads, Body 4x4mm, Pitch 0.5mm, Thermal Pad 2.5x2.5mm, IPC Medium Density)
footprint SLAB-QFN-24-2500x2500TP_L (QFN, 24-Leads, Body 4x4mm, Pitch 0.5mm, Thermal Pad 2.5x2.5mm, IPC High Density)
footprint SLAB-QFN-24-2500x2500TP_M (QFN, 24-Leads, Body 4x4mm, Pitch 0.5mm, Thermal Pad 2.5x2.5mm, IPC Low Density)
part A pins: 1 CLKIN (in) "These pins are used as the main differential clock input or as the XTAL input.", 2 CLKINB (in) "These pins are used as the main differential clock input or as the XTAL input.", 3 CLKIN (in) "Provides a high-impedance clock input for single ended clock signals.", 4 I2C_LSB (in) "This is the LSB of the Si5338 I2C address.", 5 FDBK (in) "These pins can be used as a differential feedback input in zero delay mode or as a secondary clock input.", 6 FDBKB (in) "These pins can be used as a differential feedback input in zero delay mode or as a secondary clock input.", 8 INTR (oc) "Interrupt.", 9 CLK3B (out) "Output Clock B for Channel 3", 10 CLK3A (out) "Output Clock A for Channel 3", 12 SCL (in) "I2C Serial Clock Input.", 13 CLK2B (out) "Output Clock B for Channel 2", 14 CLK2A (out) "Output Clock A for Channel 2", 17 CLK1B (out) "Output Clock B for Channel 1", 18 CLK1A (out) "Output Clock A for Channel 1", 19 SDA (io) "I2C Serial Data.", 21 CLK0B (out) "Output Clock B for Channel 0", 22 CLK0A (out) "Output Clock A for Channel 0"
part B pins: 7 VDD (power) "Core Supply Voltage", 11 VDDO3 (power) "Output Clock Supply Voltage", 15 VDDO2 (power) "Output Clock Supply Voltage.", 16 VDDO1 (power) "Output Clock Supply Voltage.", 20 VDDO0 (power) "Output Clock Supply Voltage.", 23 GND (power) "Ground.", 24 VDD (power) "Core Supply Voltage.", 25 GND (power) "Ground Pad."

## Si5338C-B-GM
designator U?
I2C-Programmable Any-Frequency, Any-Output Quad Clock Generator, 1.8 / 2.5 / 3.3 V, 0.16 to 200 MHz Output, -40 to 85 degC, 24-pin QFN; Manufacturer: Silicon Labs; PartNumber: Si5338C-B-GM; Output Format: LVPECL; LVDS; LVCMOS; HCSL; SSTL; HSTL; Reference Inputs: 1; VDD: 1.8 V; 2.5 V; 3.3 V; Sub-Family: Clock Generators part2; DatasheetVersion: Rev. 1.3; PackageReference: QFN-24; PackageDescription: 24-Pin Quad-Flat No-Leads Package, Body 4 x 4 mm, Pitch 0.5 mm; Supplier 1: Digi-Key; Supplier Part Number 1: 336-2554-ND; Supplier 2: Mouser; Supplier Part Number 2: 634-SI5338C-B-GM; Output Frequency (MHz): 0.16 to 200; Mounting Technology: Surface Mount; Code_JEDEC: MO-220; Code_IPC: J-STD-020; ComponentLink1Description: Manufacturer URL; ComponentLink1URL: http://www.silabs.com/; ComponentLink2Description: Datasheet; ComponentLink2URL: http://www.silabs.com/Support%20Documents/TechnicalDocs/Si5338.pdf; ComponentLink3Description: Package Specification; ComponentLink3URL: http://www.silabs.com/Support%20Documents/TechnicalDocs/Si5330.pdf
footprint SLAB-QFN-24-2500x2500TP_N (QFN, 24-Leads, Body 4x4mm, Pitch 0.5mm, Thermal Pad 2.5x2.5mm, IPC Medium Density)
footprint SLAB-QFN-24-2500x2500TP_L (QFN, 24-Leads, Body 4x4mm, Pitch 0.5mm, Thermal Pad 2.5x2.5mm, IPC High Density)
footprint SLAB-QFN-24-2500x2500TP_M (QFN, 24-Leads, Body 4x4mm, Pitch 0.5mm, Thermal Pad 2.5x2.5mm, IPC Low Density)
part A pins: 1 CLKIN (in) "These pins are used as the main differential clock input or as the XTAL input.", 2 CLKINB (in) "These pins are used as the main differential clock input or as the XTAL input.", 3 CLKIN (in) "Provides a high-impedance clock input for single ended clock signals.", 4 I2C_LSB (in) "This is the LSB of the Si5338 I2C address.", 5 FDBK (in) "These pins can be used as a differential feedback input in zero delay mode or as a secondary clock input.", 6 FDBKB (in) "These pins can be used as a differential feedback input in zero delay mode or as a secondary clock input.", 8 INTR (oc) "Interrupt.", 9 CLK3B (out) "Output Clock B for Channel 3", 10 CLK3A (out) "Output Clock A for Channel 3", 12 SCL (in) "I2C Serial Clock Input.", 13 CLK2B (out) "Output Clock B for Channel 2", 14 CLK2A (out) "Output Clock A for Channel 2", 17 CLK1B (out) "Output Clock B for Channel 1", 18 CLK1A (out) "Output Clock A for Channel 1", 19 SDA (io) "I2C Serial Data.", 21 CLK0B (out) "Output Clock B for Channel 0", 22 CLK0A (out) "Output Clock A for Channel 0"
part B pins: 7 VDD (power) "Core Supply Voltage", 11 VDDO3 (power) "Output Clock Supply Voltage", 15 VDDO2 (power) "Output Clock Supply Voltage.", 16 VDDO1 (power) "Output Clock Supply Voltage.", 20 VDDO0 (power) "Output Clock Supply Voltage.", 23 GND (power) "Ground.", 24 VDD (power) "Core Supply Voltage.", 25 GND (power) "Ground Pad."

## Si5338C-B-GMR
designator U?
I2C-Programmable Any-Frequency, Any-Output Quad Clock Generator, 1.8 / 2.5 / 3.3 V, 0.16 to 200 MHz Output, -40 to 85 degC, 24-pin QFN, Tape and Reel; Manufacturer: Silicon Labs; PartNumber: Si5338C-B-GMR; Output Format: LVPECL; LVDS; LVCMOS; HCSL; SSTL; HSTL; Phase Jitter (RMS): 0.7 ps; Reference Inputs: 1; VDD: 1.8 V; 2.5 V; 3.3 V; Sub-Family: Clock Generators part2; DatasheetVersion: Rev. 1.3; PackageReference: QFN-24; PackageDescription: 24-Pin Quad-Flat No-Leads Package, Body 4 x 4 mm, Pitch 0.5 mm; Supplier 1: Digi-Key; Supplier Part Number 1: SI5338C-B-GMR-ND; Supplier 2: Mouser; Supplier Part Number 2: 634-SI5338C-B-GMR; Output Frequency (MHz): 0.16 to 200; Packing: Tape and Reel; Mounting Technology: Surface Mount; Code_JEDEC: MO-220; Code_IPC: J-STD-020; ComponentLink1Description: Manufacturer URL; ComponentLink1URL: http://www.silabs.com/; ComponentLink2Description: Datasheet; ComponentLink2URL: http://www.silabs.com/Support%20Documents/TechnicalDocs/Si5338.pdf; ComponentLink3Description: Package Specification; ComponentLink3URL: http://www.silabs.com/Support%20Documents/TechnicalDocs/Si5330.pdf
footprint SLAB-QFN-24-2500x2500TP_N (QFN, 24-Leads, Body 4x4mm, Pitch 0.5mm, Thermal Pad 2.5x2.5mm, IPC Medium Density)
footprint SLAB-QFN-24-2500x2500TP_L (QFN, 24-Leads, Body 4x4mm, Pitch 0.5mm, Thermal Pad 2.5x2.5mm, IPC High Density)
footprint SLAB-QFN-24-2500x2500TP_M (QFN, 24-Leads, Body 4x4mm, Pitch 0.5mm, Thermal Pad 2.5x2.5mm, IPC Low Density)
part A pins: 1 CLKIN (in) "These pins are used as the main differential clock input or as the XTAL input.", 2 CLKINB (in) "These pins are used as the main differential clock input or as the XTAL input.", 3 CLKIN (in) "Provides a high-impedance clock input for single ended clock signals.", 4 I2C_LSB (in) "This is the LSB of the Si5338 I2C address.", 5 FDBK (in) "These pins can be used as a differential feedback input in zero delay mode or as a secondary clock input.", 6 FDBKB (in) "These pins can be used as a differential feedback input in zero delay mode or as a secondary clock input.", 8 INTR (oc) "Interrupt.", 9 CLK3B (out) "Output Clock B for Channel 3", 10 CLK3A (out) "Output Clock A for Channel 3", 12 SCL (in) "I2C Serial Clock Input.", 13 CLK2B (out) "Output Clock B for Channel 2", 14 CLK2A (out) "Output Clock A for Channel 2", 17 CLK1B (out) "Output Clock B for Channel 1", 18 CLK1A (out) "Output Clock A for Channel 1", 19 SDA (io) "I2C Serial Data.", 21 CLK0B (out) "Output Clock B for Channel 0", 22 CLK0A (out) "Output Clock A for Channel 0"
part B pins: 7 VDD (power) "Core Supply Voltage", 11 VDDO3 (power) "Output Clock Supply Voltage", 15 VDDO2 (power) "Output Clock Supply Voltage.", 16 VDDO1 (power) "Output Clock Supply Voltage.", 20 VDDO0 (power) "Output Clock Supply Voltage.", 23 GND (power) "Ground.", 24 VDD (power) "Core Supply Voltage.", 25 GND (power) "Ground Pad."

## Si5338D-A-GM
designator U?
I2C-Programmable Any-Frequency, Any-Output Quad Clock Generator, 1.8 / 2.5 / 3.3 V, 0.16 to 710 MHz Output, -40 to 85 degC, 24-pin QFN; Manufacturer: Silicon Labs; PartNumber: Si5338D-A-GM; Output Format: LVPECL; LVDS; LVCMOS; HCSL; SSTL; HSTL; Reference Inputs: 1; VDD: 1.8 V; 2.5 V; 3.3 V; Sub-Family: Clock Generators part2; DatasheetVersion: Rev. 1.3; PackageReference: QFN-24; PackageDescription: 24-Pin Quad-Flat No-Leads Package, Body 4 x 4 mm, Pitch 0.5 mm; Supplier 1: Digi-Key; Supplier Part Number 1: SI5338D-A-GM-ND; Supplier 2: Mouser; Supplier Part Number 2: 634-SI5338D-A-GM; Output Frequency (MHz): 0.16 to 710; Mounting Technology: Surface Mount; Code_JEDEC: MO-220; Code_IPC: J-STD-020; ComponentLink1Description: Manufacturer URL; ComponentLink1URL: http://www.silabs.com/; ComponentLink2Description: Datasheet; ComponentLink2URL: http://www.silabs.com/Support%20Documents/TechnicalDocs/Si5338.pdf; ComponentLink3Description: Package Specification; ComponentLink3URL: http://www.silabs.com/Support%20Documents/TechnicalDocs/Si5330.pdf
footprint SLAB-QFN-24-2500x2500TP_N (QFN, 24-Leads, Body 4x4mm, Pitch 0.5mm, Thermal Pad 2.5x2.5mm, IPC Medium Density)
footprint SLAB-QFN-24-2500x2500TP_L (QFN, 24-Leads, Body 4x4mm, Pitch 0.5mm, Thermal Pad 2.5x2.5mm, IPC High Density)
footprint SLAB-QFN-24-2500x2500TP_M (QFN, 24-Leads, Body 4x4mm, Pitch 0.5mm, Thermal Pad 2.5x2.5mm, IPC Low Density)
part A pins: 1 CLKIN (in) "These pins are used as the main differential clock input or as the XTAL input. See "3.2. Input Stage" on page 18, Figure 3 and Figure 4, for connection details. Clock inputs to these pins must be ac-coupled. Keep the traces (See Datasheet)", 2 CLKINB (in) "These pins are used as the main differential clock input or as the XTAL input. See "3.2. Input Stage" on page 18, Figure 3 and Figure 4, for connection details. Clock inputs to these pins must be ac-coupled. Keep the traces (See Datasheet)", 3 PINC (in) "PINC (for Si5338D/E/F devices only)Used as the phase increment pin. See  “3.10.2. Output Phase  Increment/Decrement “  on page 26 for more details. Minimum  pulse width of 100 ns is required for proper operation. If t(See Datasheet)", 4 PDEC (in) "PDEC (for Si5338D/E/F) devices only)Used as the phase decrement pin. See “3.10.2. Output Phase  Increment/Decrement” for more details. Minimum pulse width of  100 ns is required for proper operation. If this pin is (See Datasheet)", 5 FDBK (in) "These pins can be used as a differential feedback input in zero delay mode or as a secondary clock input. See section 3.2, Figure 3, for termination details. See "3.10.6. Zero-Delay Mode" on page 27 for zero delay mode (See Datasheet)", 6 FDBKB (in) "These pins can be used as a differential feedback input in zero delay mode or as a secondary clock input. See section 3.2, Figure 3, for termination details. See "3.10.6. Zero-Delay Mode" on page 27 for zero delay mode (See Datasheet)", 8 INTR (oc) "Interrupt.", 9 CLK3B (out) "Output Clock B for Channel 3.", 10 CLK3A (out) "Output Clock A for Channel 3.", 12 SCL (in) "I2C Serial Clock Input", 13 CLK2B (out) "Output Clock B for Channel 2.", 14 CLK2A (out) "Output Clock A for Channel 2.", 17 CLK1B (out) "Output Clock B for Channel 1.", 18 CLK1A (out) "Output Clock A for Channel 1.", 19 SDA (io) "I2C Serial Data.", 21 CLK0B (out) "Output Clock B for Channel 0.", 22 CLK0A (out) "Output ClockA for Channel 0."
part B pins: 7 VDD (power) "Core Supply Voltage.", 11 VDDO3 (power) "Output Clock Supply Voltage.", 15 VDDO2 (power) "Output Clock Supply Voltage", 16 VDDO1 (power) "Output Clock Supply Voltage", 20 VDDO0 (power) "Output Clock Supply Voltage.", 23 GND (power) "Ground.", 24 VDD (power) "Core Supply Voltage.", 25 GND (power) "Ground Pad"

## SI5338D-A-GMR
designator U?
I2C-Programmable Any-Frequency, Any-Output Quad Clock Generator, 1.8 / 2.5 / 3.3 V, 0.16 to 710 MHz Output, -40 to 85 degC, 24-pin QFN, Tape and Reel; Manufacturer: Silicon Labs; PartNumber: SI5338D-A-GMR; Output Format: LVPECL; LVDS; LVCMOS; HCSL; SSTL; HSTL; Phase Jitter (RMS): 0.7 ps; Reference Inputs: 1; VDD: 1.8 V; 2.5 V; 3.3 V; Sub-Family: Clock Generators part2; DatasheetVersion: Rev. 1.3; PackageReference: QFN-24; PackageDescription: 24-Pin Quad-Flat No-Leads Package, Body 4 x 4 mm, Pitch 0.5 mm; Supplier 1: Mouser; Supplier Part Number 1: 634-SI5338D-A-GMR; Output Frequency (MHz): 0.16 to 710; Packing: Tape and Reel; Mounting Technology: Surface Mount; Code_JEDEC: MO-220; Code_IPC: J-STD-020; ComponentLink1Description: Manufacturer URL; ComponentLink1URL: http://www.silabs.com/; ComponentLink2Description: Datasheet; ComponentLink2URL: http://www.silabs.com/Support%20Documents/TechnicalDocs/Si5338.pdf; ComponentLink3Description: Package Specification; ComponentLink3URL: http://www.silabs.com/Support%20Documents/TechnicalDocs/Si5330.pdf
footprint SLAB-QFN-24-2500x2500TP_N (QFN, 24-Leads, Body 4x4mm, Pitch 0.5mm, Thermal Pad 2.5x2.5mm, IPC Medium Density)
footprint SLAB-QFN-24-2500x2500TP_L (QFN, 24-Leads, Body 4x4mm, Pitch 0.5mm, Thermal Pad 2.5x2.5mm, IPC High Density)
footprint SLAB-QFN-24-2500x2500TP_M (QFN, 24-Leads, Body 4x4mm, Pitch 0.5mm, Thermal Pad 2.5x2.5mm, IPC Low Density)
part A pins: 1 CLKIN (in) "These pins are used as the main differential clock input or as the XTAL input. See "3.2. Input Stage" on page 18, Figure 3 and Figure 4, for connection details. Clock inputs to these pins must be ac-coupled. Keep the traces (See Datasheet)", 2 CLKINB (in) "These pins are used as the main differential clock input or as the XTAL input. See "3.2. Input Stage" on page 18, Figure 3 and Figure 4, for connection details. Clock inputs to these pins must be ac-coupled. Keep the traces (See Datasheet)", 3 PINC (in) "PINC (for Si5338D/E/F devices only)Used as the phase increment pin. See  “3.10.2. Output Phase  Increment/Decrement “  on page 26 for more details. Minimum  pulse width of 100 ns is required for proper operation. If t(See Datasheet)", 4 PDEC (in) "PDEC (for Si5338D/E/F) devices only)Used as the phase decrement pin. See “3.10.2. Output Phase  Increment/Decrement” for more details. Minimum pulse width of  100 ns is required for proper operation. If this pin is (See Datasheet)", 5 FDBK (in) "These pins can be used as a differential feedback input in zero delay mode or as a secondary clock input. See section 3.2, Figure 3, for termination details. See "3.10.6. Zero-Delay Mode" on page 27 for zero delay mode (See Datasheet)", 6 FDBKB (in) "These pins can be used as a differential feedback input in zero delay mode or as a secondary clock input. See section 3.2, Figure 3, for termination details. See "3.10.6. Zero-Delay Mode" on page 27 for zero delay mode (See Datasheet)", 8 INTR (oc) "Interrupt.", 9 CLK3B (out) "Output Clock B for Channel 3.", 10 CLK3A (out) "Output Clock A for Channel 3.", 12 SCL (in) "I2C Serial Clock Input", 13 CLK2B (out) "Output Clock B for Channel 2.", 14 CLK2A (out) "Output Clock A for Channel 2.", 17 CLK1B (out) "Output Clock B for Channel 1.", 18 CLK1A (out) "Output Clock A for Channel 1.", 19 SDA (io) "I2C Serial Data.", 21 CLK0B (out) "Output Clock B for Channel 0.", 22 CLK0A (out) "Output ClockA for Channel 0."
part B pins: 7 VDD (power) "Core Supply Voltage.", 11 VDDO3 (power) "Output Clock Supply Voltage.", 15 VDDO2 (power) "Output Clock Supply Voltage", 16 VDDO1 (power) "Output Clock Supply Voltage", 20 VDDO0 (power) "Output Clock Supply Voltage.", 23 GND (power) "Ground.", 24 VDD (power) "Core Supply Voltage.", 25 GND (power) "Ground Pad"